# EAGLE library part SFV12R-3STBE1HLF (library dpx-con-CUSTOM)
AMPHENOL ICC (FCI) - SFV12R-3STBE1HLF - CONNECTOR, FFC/FPC, 12POS, 1ROW, 0.5MM Source: Datasheet <https://cdn.amphenol-icc.com/media/wysiwyg/files/drawing/10116954.pdf>
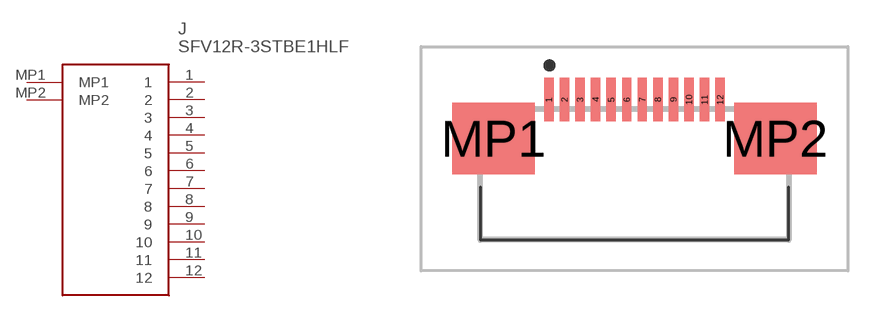
[diagram p16: symbol with the pads of SFV12R3STBE1HLF; footprint SFV12R3STBE1HLF]

Designator prefix J

## SFV12R-3STBE1HLF (ARROW_PART_NUMBER: SFV12R-3STBE1HLF; ARROW_PRICE-STOCK: https://www.arrow.com/en/products/sfv12r-3stbe1hlf/amphenol-fci; DESCRIPTION: AMPHENOL ICC (FCI) - SFV12R-3STBE1HLF - CONNECTOR, FFC/FPC, 12POS, 1ROW, 0.5MM; HEIGHT: 2mm; MANUFACTURER_NAME: Amphenol; MANUFACTURER_PART_NUMBER: SFV12R-3STBE1HLF; MOUSER_PART_NUMBER: 649-SFV12R-3STBE1HLF; MOUSER_PRICE-STOCK: https://www.mouser.co.uk/ProductDetail/Amphenol-FCI/SFV12R-3STBE1HLF?qs=pLQRQR43dtqBMUh4LMBtyw%3D%3D)  [SFV12R3STBE1HLF]
1  1
2  2
3  3
4  4
5  5
6  6
7  7
8  8
9  9
10  10
11  11
12  12
MP1  MP1
MP2  MP2

## Footprint SFV12R3STBE1HLF (pad centres in mm)
SFV12R-3STBE1HLF-3
smd 0.3 x 1.4: 1 -2.75,1.9; 2 -2.25,1.9; 3 -1.75,1.9; 4 -1.25,1.9; 5 -0.75,1.9; 6 -0.25,1.9; 7 0.25,1.9; 8 0.75,1.9; 9 1.25,1.9; 10 1.75,1.9; 11 2.25,1.9; 12 2.75,1.9
smd 2.65 x 2.3: MP1 -4.525,0.65; MP2 4.525,0.65